# EAGLE library part REEF_SLOT (library jt-con-pcie)
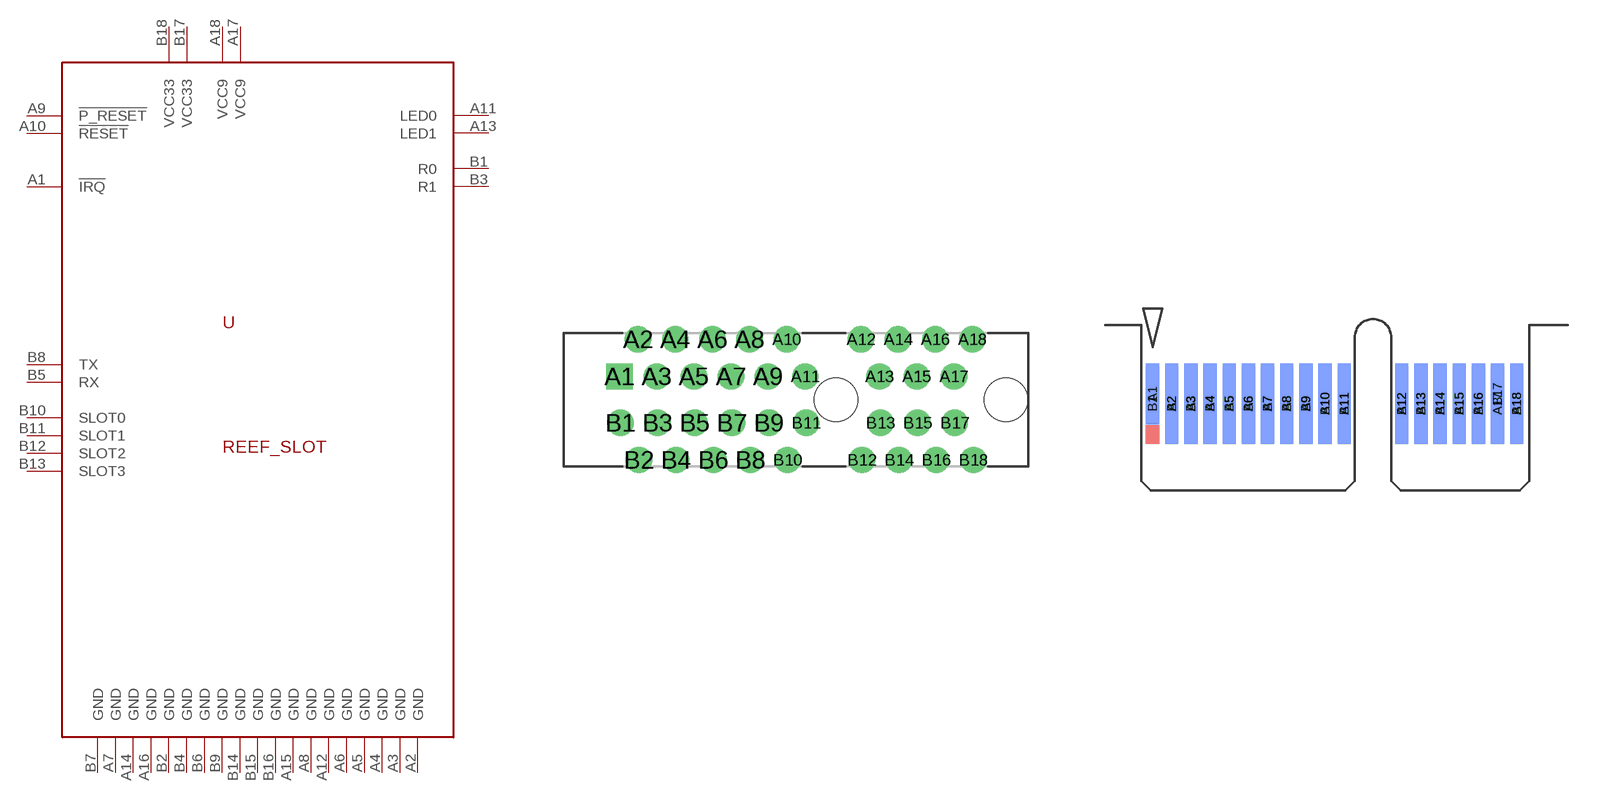
[diagram p2: symbol with the pads of PCIE-36-SKT; footprints PCIE-36-SKT, PCIE-36-EDGE]

Designator prefix -

## REEF_SLOTSOCKET  [PCIE-36-SKT]
A1  !IRQ!
A2  GND
A3  GND
A4  GND
A5  GND
A6  GND
A7  GND
A8  GND
A9  !P_RESET!
A10  !RESET!
A11  LED0
A12  GND
A13  LED1
A14  GND
A15  GND
A16  GND
A17  VCC9
A18  VCC9
B1  R0
B2  GND
B3  R1
B4  GND
B5  RX
B6  GND
B7  GND
B8  TX
B9  GND
B10  SLOT0
B11  SLOT1
B12  SLOT2
B13  SLOT3
B14  GND
B15  GND
B16  GND
B17  VCC33
B18  VCC33

## REEF_SLOTEDGE  [PCIE-36-EDGE]
Pads as for PCIE-36-SKT

## Footprint PCIE-36-SKT (pad centres in mm)
PCIE-36 way socket
drill 0.7 pad 1.422 square: A1 -11.65,1.25
drill 0.7 pad 1.422: A2 -10.65,3.25; A3 -9.65,1.25; A4 -8.65,3.25; A5 -7.65,1.25; A6 -6.65,3.25; A7 -5.65,1.25; A8 -4.65,3.25; A9 -3.65,1.25; A10 -2.65,3.25; A11 -1.65,1.25; A12 1.35,3.25; A13 2.35,1.25; A14 3.35,3.25; A15 4.35,1.25; A16 5.35,3.25; A17 6.35,1.25; A18 7.35,3.25; B1 -11.6,-1.25; B2 -10.6,-3.25; B3 -9.6,-1.25; B4 -8.6,-3.25; B5 -7.6,-1.25; B6 -6.6,-3.25; B7 -5.6,-1.25; B8 -4.6,-3.25; B9 -3.6,-1.25; B10 -2.6,-3.25; B11 -1.6,-1.25; B12 1.4,-3.25; B13 2.4,-1.25; B14 3.4,-3.25; B15 4.4,-1.25; B16 5.4,-3.25; B17 6.4,-1.25; B18 7.4,-3.25
hole 2.35 at 0,0
hole 2.35 at 9.15,0

## Footprint PCIE-36-EDGE (pad centres in mm)
PCI-E 36-way edge connector
smd 0.7 x 3.2 bottom: A1 -11.5,-3.6
smd 0.7 x 4.2 bottom: A2 -10.5,-4.1; A3 -9.5,-4.1; A4 -8.5,-4.1; A5 -7.5,-4.1; A6 -6.5,-4.1; A7 -5.5,-4.1; A8 -4.5,-4.1; A9 -3.5,-4.1; A10 -2.5,-4.1; A11 -1.5,-4.1; A12 1.5,-4.1; A13 2.5,-4.1; A14 3.5,-4.1; A15 4.5,-4.1; A16 5.5,-4.1; A17 6.5,-4.1; A18 7.5,-4.1
smd 0.7 x 4.2: B1 -11.5,-4.1; B2 -10.5,-4.1; B3 -9.5,-4.1; B4 -8.5,-4.1; B5 -7.5,-4.1; B6 -6.5,-4.1; B7 -5.5,-4.1; B8 -4.5,-4.1; B9 -3.5,-4.1; B10 -2.5,-4.1; B11 -1.5,-4.1; B12 1.5,-4.1; B13 2.5,-4.1; B14 3.5,-4.1; B15 4.5,-4.1; B16 5.5,-4.1; B18 7.5,-4.1
smd 0.7 x 3.2: B17 6.5,-3.6